# Altium footprint library QUTMS_Microfit.PcbLib: 64 footprints (part 1 of 4)
Each footprint in its own frame and in the unit in brackets; x right, y up, seen from the top. Pads: shape width x height; smd on the part's side, far side on the other; paste and mask are expansions set on the pad; w line width, h text height; cw(c..) or ccw(c..) is an arc to the next point about the centre after c.

## Microfit_1X2_R_SMD [mil]

## Microfit_1X2_R_TH [mil]

## Microfit_1X2_V_SMD [mil]

## Microfit_1X2_V_TH [mil]

## Microfit_1X3_R_SMD [mil]

## Microfit_1X3_R_TH [mil]

## Microfit_1X3_V_SMD [mil]

## Microfit_1X3_V_TH [mil]

## Microfit_1X4_R_SMD [mil]

## Microfit_1X4_R_TH [mil]

## Microfit_1X4_V_SMD [mil]

## Microfit_1X4_V_TH [mil]

## Microfit_1X5_R_SMD [mil]

## Microfit_1X5_R_TH [mil]

## Microfit_1X5_V_SMD [mil]

## Microfit_1X5_V_TH [mil]